# Altium footprint library RES_SMD.PcbLib: 7 footprints
Each footprint in its own frame and in the unit in brackets; x right, y up, seen from the top. Pads: shape width x height; smd on the part's side, far side on the other; paste and mask are expansions set on the pad; w line width, h text height; cw(c..) or ccw(c..) is an arc to the next point about the centre after c.
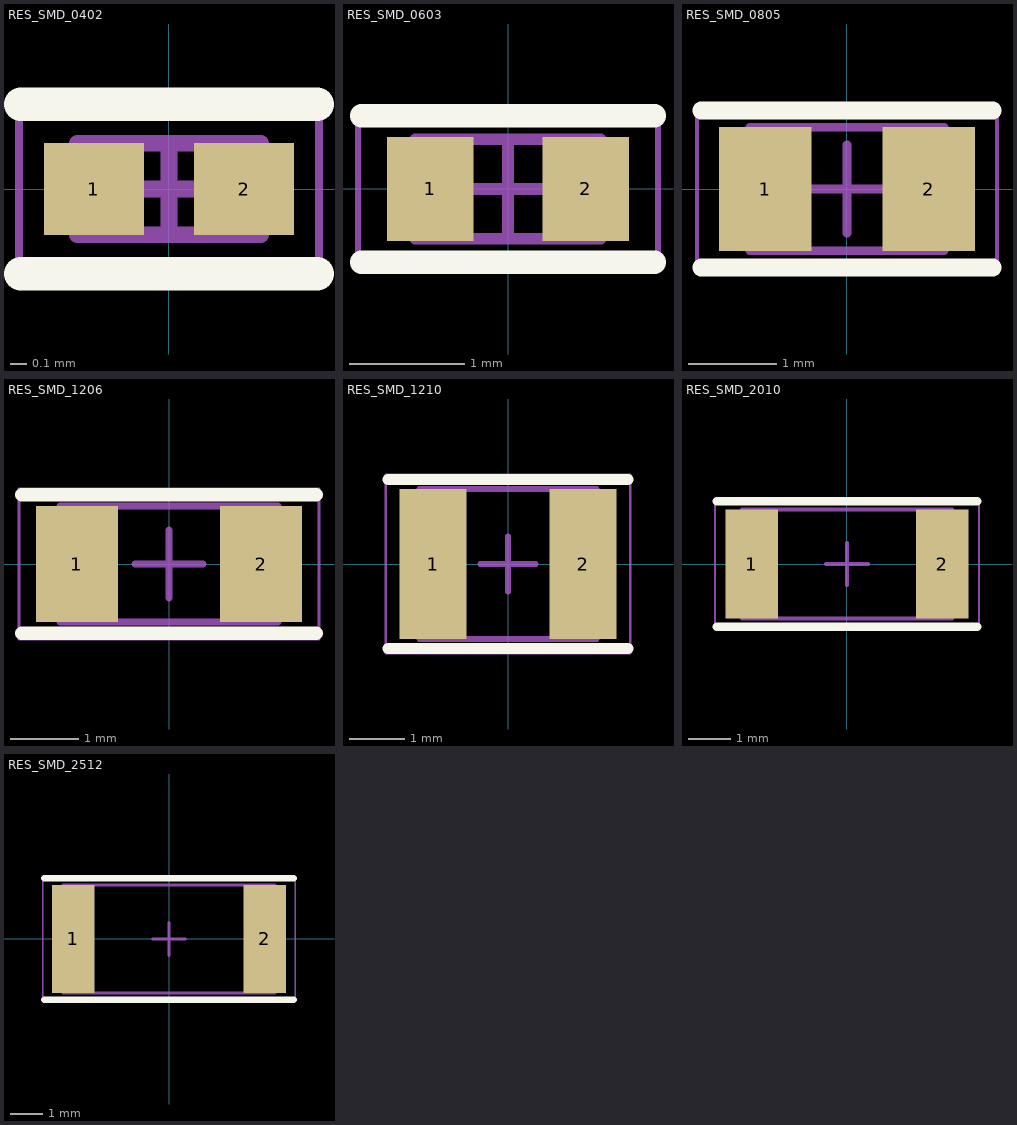
[diagram p0: the footprints below, top view; thin cyan lines are the x and y axes]

## RES_SMD_0402 [mm]
height 0.4
pads (2):
  rect 0.6x0.55 smd: 1(-0.45,0) 2(0.45,0)
Top Overlay:
  lines w0.2: -0.889,-0.508 0.889,-0.508 ; -0.889,0.508 0.889,0.508
Mechanical 13:
  lines w0.1: -0.55,-0.275 -0.55,0.275 0.55,0.275 0.55,-0.275 -0.55,-0.275
Mechanical 15:
  lines w0.05: -0.9,-0.45 -0.9,0.45 0.9,0.45 0.9,-0.45 -0.9,-0.45
  lines w0.1: -0.275,0 0.275,0 ; 0,-0.275 0,0.275
3D body "RES_SMD_0402.step": height 0.4, standoff 0, extent -0.55,-0.275 0.55,0.275

## RES_SMD_0603 [mm]
height 0.5
pads (2):
  rect 0.75x0.9 smd: 1(-0.675,0) 2(0.675,0)
Top Overlay:
  lines w0.2: -1.27,-0.635 1.27,-0.635 ; -1.27,0.635 1.27,0.635
Mechanical 13:
  lines w0.1: -0.805,-0.43 0.805,-0.43 0.805,0.43 -0.805,0.43 -0.805,-0.43
Mechanical 15:
  lines w0.05: -1.3,-0.7 1.3,-0.7 1.3,0.7 -1.3,0.7 -1.3,-0.7
  lines w0.1: -0.43,0 0.43,0 ; 0,-0.43 0,0.43
3D body "RES_SMD_0603.step": height 0.5, standoff 0, extent -0.805,-0.43 0.805,0.43

## RES_SMD_0805 [mm]
height 0.55
pads (2):
  rect 1.05x1.4 smd: 1(-0.925,0) 2(0.925,0)
Top Overlay:
  lines w0.2: -1.651,-0.889 1.651,-0.889 ; -1.651,0.889 1.651,0.889
Mechanical 13:
  lines w0.1: -1.1,-0.7 1.1,-0.7 1.1,0.7 -1.1,0.7 -1.1,-0.7
Mechanical 15:
  lines w0.05: -1.7,-0.95 1.7,-0.95 1.7,0.95 -1.7,0.95 -1.7,-0.95
  lines w0.1: -0.5,0 0.5,0 ; 0,-0.5 0,0.5
3D body "RES_SMD_0805.step": height 0.55, standoff 0, extent -1.1,-0.7 1.1,0.7

## RES_SMD_1206 [mm]
height 0.6
pads (2):
  rect 1.2x1.7 smd: 1(-1.35,0) 2(1.35,0)
Top Overlay:
  lines w0.2: -2.159,-1.016 2.159,-1.016 ; -2.159,1.016 2.159,1.016
Mechanical 13:
  lines w0.1: -1.6,-0.85 -1.6,0.85 1.6,0.85 1.6,-0.85 -1.6,-0.85
Mechanical 15:
  lines w0.05: -2.2,-1.1 -2.2,1.1 2.2,1.1 2.2,-1.1 -2.2,-1.1
  lines w0.1: -0.5,0 0.5,0 ; 0,-0.5 0,0.5
3D body "RES_SMD_1206.step": height 0.6, standoff 0, extent -1.6,-0.85 1.6,0.85

## RES_SMD_1210 [mm]
height 0.6
pads (2):
  rect 1.2x2.7 smd: 1(-1.35,0) 2(1.35,0)
Top Overlay:
  lines w0.2: -2.159,-1.524 2.159,-1.524 ; -2.159,1.524 2.159,1.524
Mechanical 13:
  lines w0.1: -1.6,-1.35 1.6,-1.35 1.6,1.35 -1.6,1.35 -1.6,-1.35
Mechanical 15:
  lines w0.05: -2.2,-1.6 2.2,-1.6 2.2,1.6 -2.2,1.6 -2.2,-1.6
  lines w0.1: -0.5,0 0.5,0 ; 0,-0.5 0,0.5
3D body "RES_SMD_1210.step": height 0.6, standoff 0, extent -1.6,-1.35 1.6,1.35

## RES_SMD_2010 [mm]
height 0.6
pads (2):
  rect 1.25x2.6 smd: 1(-2.275,0) 2(2.275,0)
Top Overlay:
  lines w0.2: -3.1,-1.5 3.1,-1.5 ; -3.1,1.5 3.1,1.5
Mechanical 13:
  lines w0.1: -2.505,-1.3 -2.505,1.3 2.505,1.3 2.505,-1.3 -2.505,-1.3
Mechanical 15:
  lines w0.05: -3.15,-1.55 -3.15,1.55 3.15,1.55 3.15,-1.55 -3.15,-1.55
  lines w0.1: -0.5,0 0.5,0 ; 0,-0.5 0,0.5
3D body "RES_SMD_2010.step": height 0.6, standoff 0, extent -2.505,-1.3 2.505,1.3

## RES_SMD_2512 [mm]
height 0.6
pads (2):
  rect 1.3x3.3 smd: 1(-2.925,0) 2(2.925,0)
Top Overlay:
  lines w0.2: -3.8,-1.85 3.8,-1.85 ; -3.8,1.85 3.8,1.85
Mechanical 13:
  lines w0.1: -3.225,-1.65 3.225,-1.65 3.225,1.65 -3.225,1.65 -3.225,-1.65
Mechanical 15:
  lines w0.05: -3.85,-1.9 3.85,-1.9 3.85,1.9 -3.85,1.9 -3.85,-1.9
  lines w0.1: -0.5,0 0.5,0 ; 0,-0.5 0,0.5
3D body "RES_SMD_2512.step": height 0.6, standoff 0, extent -3.225,-1.65 3.225,1.65